# Altium integrated library C2012X5R1V475M125AC.IntLib: 1 symbol
Pins are listed as number, name and electrical type; pins without a type are passive.

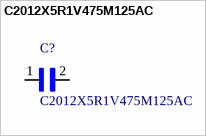
[diagram p0: symbol C2012X5R1V475M125AC]

## C2012X5R1V475M125AC
designator C?
/ Cap Ceramic 4.7uF 35V X5R 20% SMD 0805 85C T/R /; MF: TDK; Package: 2012 TDK; Availability: Unavailable; MP: C2012X5R1V475M125AC; SnapEDA_Link: https://www.snapeda.com/parts/C2012X5R1V475M125AC/TDK/view-part/1788957/?ref=snap; Price: None; Value: *
footprint *CAPC2012X145N
pins: 1, 2